# EAGLE library part J00-0065NL (library Common-Parts-Library-Eagle)
Conn RJ-45 Integrated Magnetics F 8 POS 2.54mm Solder RA Thru-Hole 12 Terminal 1 Port Cat 5/Cat 6
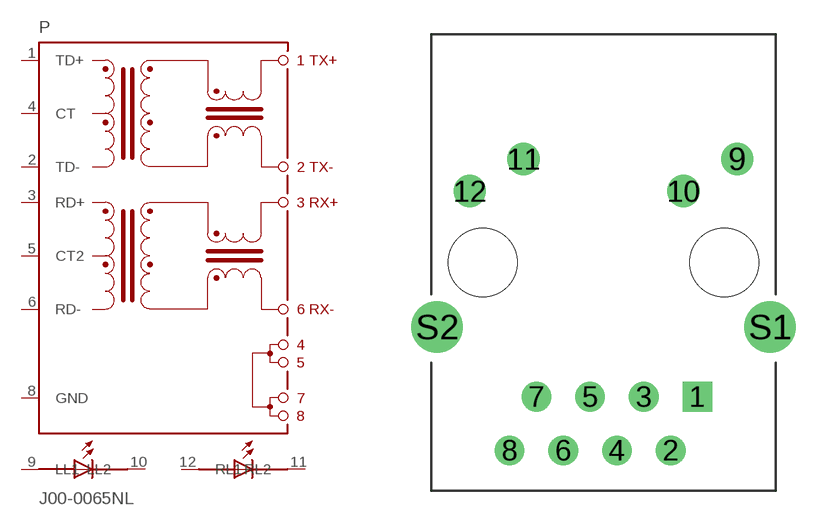
[diagram p8: symbol with the pads of PULSE_J00-0065NL; footprint PULSE_J00-0065NL]

Designator prefix P

## J00-0065NL (MANUFACTURER: Pulse)  [PULSE_J00-0065NL]
1  TD+  in
2  TD-  in
3  RD+  in
4  CT  in
5  CT2  in
6  RD-  in
8  GND  pas
9  LL1  pas
10  LL2  pas
11  RL2  pas
12  RL1  pas

## Footprint PULSE_J00-0065NL (pad centres in mm)
drill 0.9 square: 1 4.445,-6.35
drill 0.9: 2 3.175,-8.889; 3 1.905,-6.35; 4 0.635,-8.889; 5 -0.635,-6.35; 6 -1.905,-8.889; 7 -3.175,-6.35; 8 -4.445,-8.889
drill 1.02: 9 6.325,4.9; 10 3.785,3.38; 11 -3.785,4.9; 12 -6.325,3.38
drill 1.63: S1 7.875,-3.05; S2 -7.875,-3.05
hole 3.25 at -5.715,0
hole 3.25 at 5.715,0